# Altium footprint library PCB - POWER - CONV_MGJ6.PCBLIB: 1 footprints
Each footprint in its own frame and in the unit in brackets; x right, y up, seen from the top. Pads: shape width x height; smd on the part's side, far side on the other; paste and mask are expansions set on the pad; w line width, h text height; cw(c..) or ccw(c..) is an arc to the next point about the centre after c.
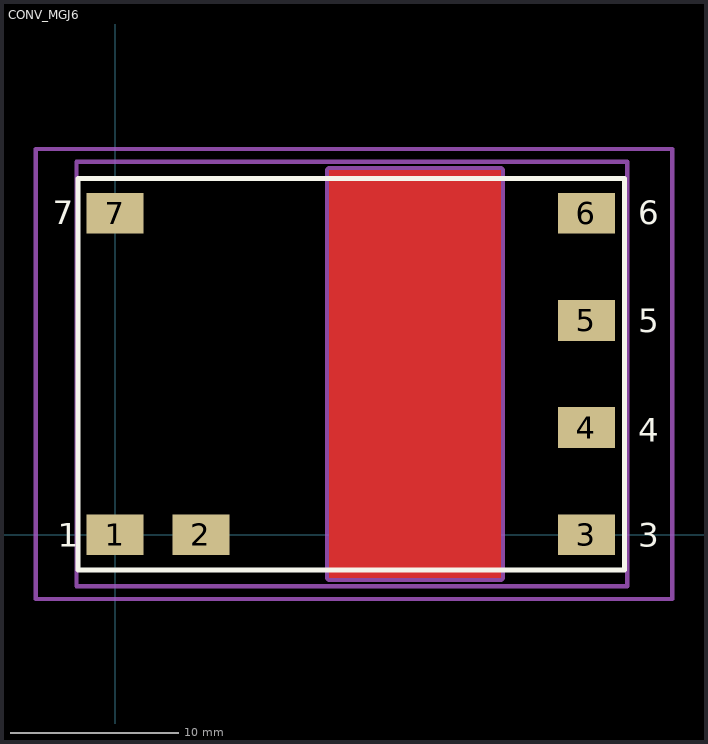
[diagram p0: the footprint, top view; thin cyan lines are the x and y axes]

## CONV_MGJ6 [mm]
pads (7):
  rect 3.38x2.41 smd: 1(0,0) 2(5.08,0) 3(27.94,0) 4(27.94,6.35) 5(27.94,12.7) 6(27.94,19.05) 7(0,19.05)
Top Layer:
  pour cut-out: 12.7,21.59 22.86,21.59 22.86,-2.54 12.7,-2.54
Top Overlay:
  lines w0.3: -2.2,-2.1 30.2,-2.1 30.2,21.1 -2.2,21.1 -2.2,-2.1
  text "1" at -3.4,-0.7 h1.4
  text "3" at 31,-0.7 h1.4
  text "4" at 31,5.5 h1.4
  text "5" at 31,12 h1.4
  text "6" at 31,18.4 h1.4
  text "7" at -3.7,18.4 h1.4
Top Assembly:
  text "7" at -3.7,18.4 h1.4
  text "3" at 31,-0.7 h1.4
  text "1" at -3.4,-0.7 h1.4
  text "6" at 31,18.4 h1.4
  text "5" at 31,12 h1.4
  text "4" at 31,5.5 h1.4
Top Courtyard:
  lines w0.254: -4.699,-3.81 -4.699,22.86 33.02,22.86 33.02,-3.81 -4.699,-3.81
  lines w0.5: 12.7,-2.54 22.86,-2.54 22.86,21.59 12.7,21.59 12.7,-2.54
  text "Recommended  / Isolation Barrier" at 19.558,-1.524 h1.4
Top Designator:
  lines w0.254: -2.286,-3.048 30.353,-3.048 30.353,22.098 -2.286,22.098 -2.286,-3.048
  text ".Designator" at 0.762,13.716 h1
Top Value (Mech13):
  text ".Comment" at 0.635,11.811 h1
3D body "mps_dcdc_mgj6_mc_a.step": height 14.04, standoff 0.01, extent -1.651,-1.778 29.591,20.828